# Altium integrated library Infineon_RFBJT_SOT343.IntLib: 7 symbols
Pins are listed as number, name and electrical type; pins without a type are passive.

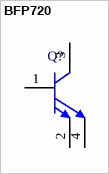
[diagram p0: symbol BFP720]

## BFP720
designator Q?
SiGe:C Heterojunction Wideband RF Bipolar Transistor, 4 V VCEO, 20 mA IC, 26 dB Gmax, SOT343, Green; Manufacturer: Infineon; PartNumber: BFP720; Gmax (typ): 26 dB; Green: yes; Group: Ultra low noise SiGe; IC (max): 20 mA; NFmin (typ): 0.5 dB; Ptot (max): 80mW; VCEO (max): 4 V; DatasheetVersion: Rev. 1.0; PackageReference: SOT343; PackageDescription: 4-Pin Small Outline Transistor Package, 1.25 x 2 mm Body; Halogen-free: yes; Mounting Technology: Surface Mount; ComponentLink1Description: Manufacturer URL; ComponentLink1URL: http://www.infineon.com/; ComponentLink2Description: Datasheet; ComponentLink2URL: http://www.infineon.com/dgdl/bfp720.pdf?folderId=db3a30431400ef68011425b291f205c5&fileId=db3a30431ddc9372011e2620465946bc&location=en.Products.RF.RF_Transistors_.Ultra_Low_Noise_SiGe_C_Transistors_for_use_up_to_12_GHz.DATASHEET.bfp720.pdf; ComponentLink3Description: Package Specification; ComponentLink3URL: http://www.infineon.com/dgdl/SOT343-Package_Overview.pdf?folderId=db3a30431936bc4b0119535155343cba&fileId=db3a30431936bc4b0119535a9f393cd3
footprint INF-SOT343_V (SOT343, 4-Leads, Body 2x1.25 mm)
pins: 1 B, 2 E, 3 C, 4 E


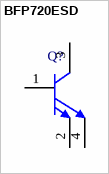
[diagram p1: symbol BFP720ESD]

## BFP720ESD
designator Q?
Robust High Performance Low Noise Bipolar RF Transistor, 4.2 V VCEO, 25 mA IC, 27 dB Gmax, SOT343, Green; Manufacturer: Infineon; PartNumber: BFP720ESD; Gmax (typ): 27 dB; Green: yes; Group: Robust ultra low noise SiGe; IC (max): 25 mA; NFmin (typ): 0.6 dB; Ptot (max): 100 mW; VCEO (max): 4.2 V; DatasheetVersion: Rev. 1.0; PackageReference: SOT343; PackageDescription: 4-Pin Small Outline Transistor Package, 1.25 x 2 mm Body; Halogen-free: yes; Mounting Technology: Surface Mount; ComponentLink1Description: Manufacturer URL; ComponentLink1URL: http://www.infineon.com/; ComponentLink2Description: Datasheet; ComponentLink2URL: http://www.infineon.com/dgdl/bfp720esd.pdf?folderId=db3a30431f848401011fcbf2ab4c04c4&fileId=db3a30432968c552012991dcedf054a7&location=en.Products.RF.RF_Transistors_.Ultra_Low_Noise_SiGe_C_Transistors_for_use_up_to_12_GHz.DATASHEET.bfp720esd.pdf; ComponentLink3Description: Package Specification; ComponentLink3URL: http://www.infineon.com/dgdl/SOT343-Package_Overview.pdf?folderId=db3a30431936bc4b0119535155343cba&fileId=db3a30431936bc4b0119535a9f393cd3
footprint INF-SOT343_V (SOT343, 4-Leads, Body 2x1.25 mm)
pins: 1 B, 2 E, 3 C, 4 E


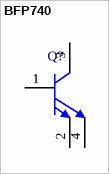
[diagram p2: symbol BFP740]

## BFP740
designator Q?
NPN Silicon Germanium RF Transistor, 4 V VCEO, 45 mA IC, 27 dB Gmax, SOT343, Green; Manufacturer: Infineon; PartNumber: BFP740; Gmax (typ): 27 dB; Green: yes; Group: Ultra low noise SiGe; IC (max): 45 mA; NFmin (typ): 0.5 dB; Ptot (max): 160mW; VCEO (max): 4 V; DatasheetVersion: Dec-2009; PackageReference: SOT343; PackageDescription: 4-Pin Small Outline Transistor Package, 1.25 x 2 mm Body; Halogen-free: yes; Mounting Technology: Surface Mount; ComponentLink1Description: Manufacturer URL; ComponentLink1URL: http://www.infineon.com/; ComponentLink2Description: Datasheet; ComponentLink2URL: http://www.infineon.com/dgdl/bfp740.pdf?folderId=db3a30431400ef68011425b291f205c5&fileId=db3a30431400ef6801142740c849070c&location=en.Products.RF.RF_Transistors_.Ultra_Low_Noise_SiGe_C_Transistors_for_use_up_to_12_GHz.DATASHEET.bfp740.pdf; ComponentLink3Description: Package Specification; ComponentLink3URL: http://www.infineon.com/dgdl/SOT343-Package_Overview.pdf?folderId=db3a30431936bc4b0119535155343cba&fileId=db3a30431936bc4b0119535a9f393cd3
footprint INF-SOT343_V (SOT343, 4-Leads, Body 2x1.25 mm)
pins: 1 B, 2 E, 3 C, 4 E


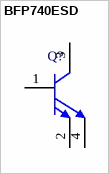
[diagram p3: symbol BFP740ESD]

## BFP740ESD
designator Q?
Robust High Performance Low Noise Bipolar RF Transistor, 4.2 V VCEO, 35 mA IC, 27 dB Gmax, SOT343, Green; Manufacturer: Infineon; PartNumber: BFP740ESD; Gmax (typ): 27 dB; Green: yes; Group: Robust ultra low noise SiGe; IC (max): 35 mA; NFmin (typ): 0.6 dB; Ptot (max): 160.0 mW; VCEO (max): 4.2 V; DatasheetVersion: Rev. 1.0; PackageReference: SOT343; PackageDescription: 4-Pin Small Outline Transistor Package, 1.25 x 2 mm Body; Halogen-free: yes; Mounting Technology: Surface Mount; ComponentLink1Description: Manufacturer URL; ComponentLink1URL: http://www.infineon.com/; ComponentLink2Description: Datasheet; ComponentLink2URL: http://www.infineon.com/dgdl/bfp740esd.pdf?folderId=db3a30431f848401011fcbf2ab4c04c4&fileId=db3a30432968c552012991dbc14c54a2&location=en.Products.RF.RF_Transistors_.Ultra_Low_Noise_SiGe_C_Transistors_for_use_up_to_12_GHz.DATASHEET.bfp740esd.pdf; ComponentLink3Description: Package Specification; ComponentLink3URL: http://www.infineon.com/dgdl/SOT343-Package_Overview.pdf?folderId=db3a30431936bc4b0119535155343cba&fileId=db3a30431936bc4b0119535a9f393cd3
footprint INF-SOT343_V (SOT343, 4-Leads, Body 2x1.25 mm)
pins: 1 B, 2 E, 3 C, 4 E


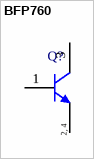
[diagram p4: symbol BFP760]

## BFP760
designator Q?
Low Noise Silicon Germanium Bipolar RF Transistor, 4 V, 70 mA IC, SOT343 (SC-82), Reel, Green; Manufacturer: Infineon; PartNumber: BFP760; fT (typ): 45 GHz; Gmax (typ): 25 dB; Green: TRUE; IC(max): 70 mA; NFmin (typ): 0.5 dB; OIP3: 31.5 dBm; OP1dB: 14.5 dBm; Ptot (max): 240 mW; VCEO (max): 4 V; DatasheetVersion: Rev. 1.0; PackageVersion: Apr-08; PackageReference: SOT343 (SC-82); PackageDescription: 4-Pin Small Outline Transistor Package, 2 x 1.25 mm Body, 1.3 mm Pitch; Halogen-free: TRUE; Packing: Reel; Mounting Technology: Surface Mount; ComponentLink1Description: Manufacturer URL; ComponentLink1URL: http://www.infineon.com/; ComponentLink2Description: Datasheet; ComponentLink2URL: http://www.infineon.com/dgdl/Infineon+SiGe+LNA+BFP760+Rev_1.pdf?folderId=db3a30431f848401011fcbf2ab4c04c4&fileId=db3a30433c1a8752013c3905d2ef4a3a; ComponentLink3Description: Package Specification; ComponentLink3URL: http://www.infineon.com/dgdl/SOT343-Package_Overview.pdf?folderId=db3a30431936bc4b0119535155343cba&fileId=db3a30431936bc4b0119535a9f393cd3
footprint INF-SOT343 (SC-82)_N (SOT343, 4-Leads, Body 2x1.25mm, Pitch 1.3mm, IPC Medium Density)
footprint INF-SOT343 (SC-82)_L (SOT343, 4-Leads, Body 2x1.25mm, Pitch 1.3mm, IPC High Density)
footprint INF-SOT343 (SC-82)_M (SOT343, 4-Leads, Body 2x1.25mm, Pitch 1.3mm, IPC Low Density)
pins: 1 B, 2 E, 3 C, 4 E
text: 2, 4


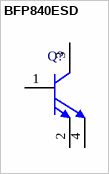
[diagram p5: symbol BFP840ESD]

## BFP840ESD
designator Q?
Robust Low Noise Silicon Germanium Bipolar RF Transistor, 2.25 V VCEO, 35 mA IC, 33.5 dB Gmax, SOT343, Green; Manufacturer: Infineon; PartNumber: BFP840ESD; Gmax (typ): 33.5 dB; Green: yes; Group: Robust ultra low noise SiGe; IC (max): 35 mA; NFmin (typ): 0.6 dB; Ptot (max): 75.0 mW; VCEO (max): 2.25 V; DatasheetVersion: Rev. 1.1; PackageReference: SOT343; PackageDescription: 4-Pin Small Outline Transistor Package, 1.25 x 2 mm Body; Halogen-free: yes; Mounting Technology: Surface Mount; ComponentLink1Description: Manufacturer URL; ComponentLink1URL: http://www.infineon.com/; ComponentLink2Description: Datasheet; ComponentLink2URL: http://www.infineon.com/dgdl/Infineon_Robust_WiFi_SiGe_LNA_BFP840ESD_Rev1_1.pdf?folderId=db3a30431f848401011fcbf2ab4c04c4&fileId=db3a304336ca04c90136e88a4d5f35b7&location=en.Products.RF.RF_Transistors_.Ultra_Low_Noise_SiGe_C_Transistors_for_use_up_to_12_GHz.DATASHEET.Infineon_Robust_WiFi_SiGe_LNA_BFP840ESD_Rev1_1.pdf; ComponentLink3Description: Package Specification; ComponentLink3URL: http://www.infineon.com/dgdl/SOT343-Package_Overview.pdf?folderId=db3a30431936bc4b0119535155343cba&fileId=db3a30431936bc4b0119535a9f393cd3
footprint INF-SOT343_V (SOT343, 4-Leads, Body 2x1.25 mm)
pins: 1 B, 2 E, 3 C, 4 E


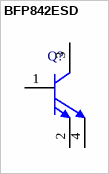
[diagram p6: symbol BFP842ESD]

## BFP842ESD
designator Q?
Robust Low Noise Silicon Germanium Bipolar RF Transistor, 3.25 V VCEO, 40 mA IC, 33 dB Gmax, SOT343, Green; Manufacturer: Infineon; PartNumber: BFP842ESD; Gmax (typ): 33 dB; Green: yes; Group: Robust ultra low noise SiGe; IC (max): 40 mA; NFmin (typ): 0.4 dB; Ptot (max): 120.0 mW; VCEO (max): 3.25 V; DatasheetVersion: Rev. 1.0; PackageReference: SOT343; PackageDescription: 4-Pin Small Outline Transistor Package, 1.25 x 2 mm Body; Halogen-free: yes; Mounting Technology: Surface Mount; ComponentLink1Description: Manufacturer URL; ComponentLink1URL: http://www.infineon.com/; ComponentLink2Description: Datasheet; ComponentLink2URL: http://www.infineon.com/dgdl/Infineon_Robust_WiFi_SiGe_BFP842ESD_Rev1_0.pdf?folderId=db3a30431f848401011fcbf2ab4c04c4&fileId=db3a3043394427e401394df03a3a27c9&location=en.Products.RF.RF_Transistors_.Ultra_Low_Noise_SiGe_C_Transistors_for_use_up_to_12_GHz.DATASHEET.Infineon_Robust_WiFi_SiGe_BFP842ESD_Rev1_0.pdf; ComponentLink3Description: Package Specification; ComponentLink3URL: http://www.infineon.com/dgdl/SOT343-Package_Overview.pdf?folderId=db3a30431936bc4b0119535155343cba&fileId=db3a30431936bc4b0119535a9f393cd3
footprint INF-SOT343_V (SOT343, 4-Leads, Body 2x1.25 mm)
pins: 1 B, 2 E, 3 C, 4 E